# Altium footprint library Interface IC Pad Lib.PcbLib: 8 footprints
Each footprint in its own frame and in the unit in brackets; x right, y up, seen from the top. Pads: shape width x height; smd on the part's side, far side on the other; paste and mask are expansions set on the pad; w line width, h text height; cw(c..) or ccw(c..) is an arc to the next point about the centre after c.
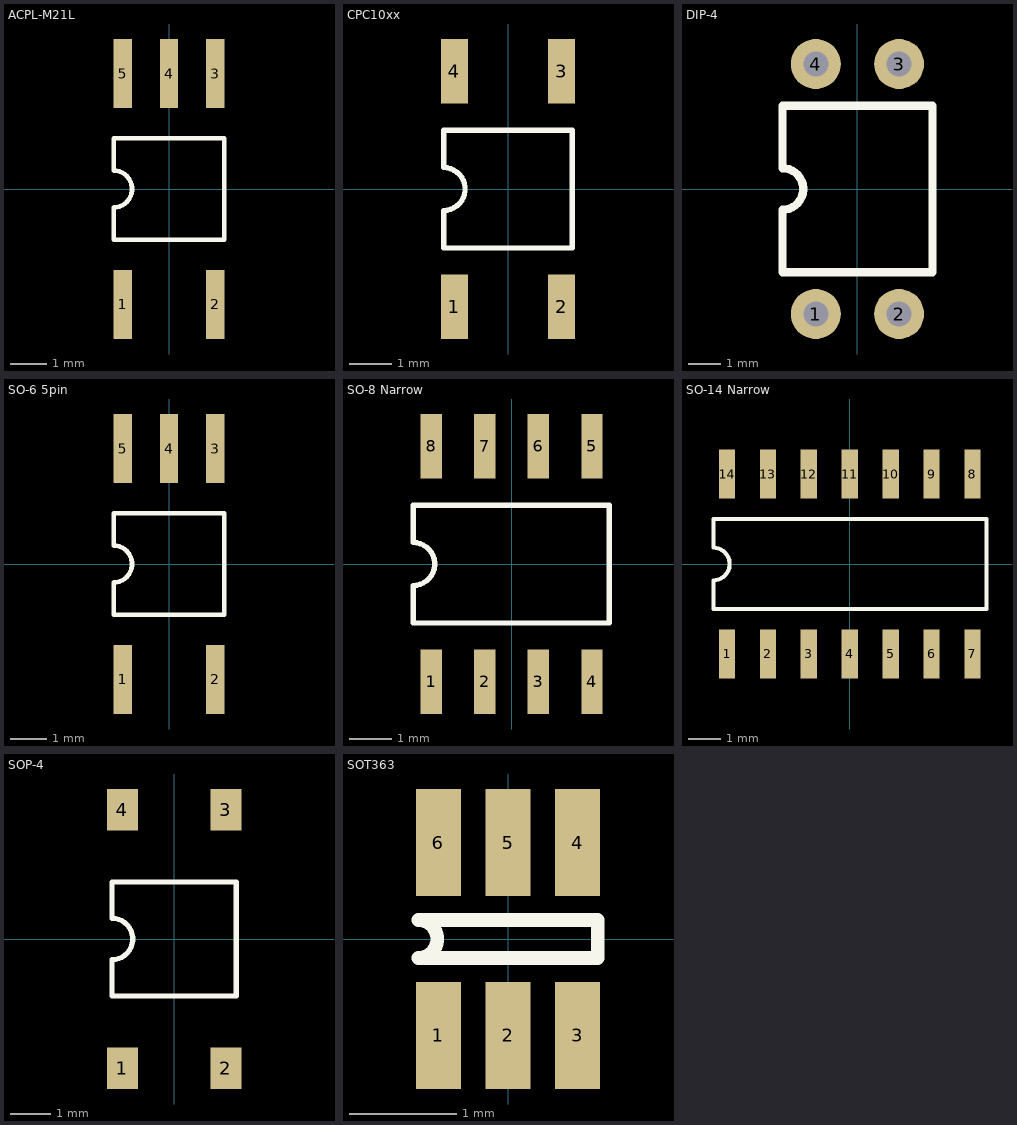
[diagram p0: the footprints below, top view; thin cyan lines are the x and y axes]

## ACPL-M21L [mil] "ACPL-M21L  (SMD SO-5 Case)"
pads (5):
  rect 20x75 smd: 1(-50,-125) 2(50,-125) 3(50,125) 4(0,125) 5(-50,125)
Top Overlay:
  lines w5: -60,-55 60,-55 60,55 -60,55 -60,20 cw(c-60,0) -60,-20 -60,-55
3D body "SO-5.STEP": height 105.18, standoff -1.12, extent -70.87,-137.8 70.87,137.8
3D body: height 171, standoff -22, extent 30,0 30,0
3D body: height 171, standoff -22, extent 30,0 30,0

## CPC10xx [mil] "Solid State Relay (SMD SO-4 Case, Ixys)"
pads (4):
  rect 25x60 smd: 1(-50,-110) 2(50,-110) 3(50,110) 4(-50,110)
Top Overlay:
  lines w5: -60,-55 60,-55 60,55 -60,55 -60,20 cw(c-60,0) -60,-20 -60,-55
3D body: height 171, standoff -22, extent 30,0 30,0
3D body: height 171, standoff -22, extent 30,0 30,0
3D body "CPC10xx.STEP": height 82.44, standoff 0, extent -80.49,-120 80.5,120

## DIP-4 [mil] "DIP-4"
pads (4):
  round 60 hole 30: 1(-50,-150) 2(50,-150) 3(50,150) 4(-50,150)
Top Overlay:
  lines w10: -90,-100 -90,-25 ccw(c-90,0) -90,25 -90,100 90,100 90,-100 -90,-100
3D body "DIP-4 WHT.STEP": height 208.66, standoff -78.74, extent -90.04,-155 90.27,154.84

## SO-6 5pin [mil] "SMD SO-6 5pin Case"
pads (5):
  rect 20x75 smd: 1(-50,-125) 2(50,-125) 3(50,125) 4(0,125) 5(-50,125)
Top Overlay:
  lines w5: -60,-55 60,-55 60,55 -60,55 -60,20 cw(c-60,0) -60,-20 -60,-55
3D body "SO-5.STEP": height 105.18, standoff -1.12, extent -70.87,-137.8 70.87,137.8
3D body: height 171, standoff -22, extent 30,0 30,0
3D body: height 171, standoff -22, extent 30,0 30,0

## SO-8 Narrow [mil] "SO-8 Narrow"
pads (8):
  rect 20x60 smd: 1(-75,-110) 2(-25,-110) 3(25,-110) 4(75,-110) 5(75,110) 6(25,110) 7(-25,110) 8(-75,110)
Top Overlay:
  lines w5: -91.75,-55 91,-55 91,55 -91.75,55 -91.75,20 cw(c-91.75,0) -91.75,-20 -91.75,-55
3D body: height 171, standoff -22, extent 0,0 0,0
3D body: height 171, standoff -22, extent 0,0 0,0
3D body "SO-8 Narrow.step": height 57, standoff 0, extent -96.75,-115 96.25,112.49

## SO-14 Narrow [mil] "SO-14 Narrow"
pads (14):
  rect 20x60 smd: 1(-150,-110) 2(-100,-110) 3(-50,-110) 4(0,-110) 5(50,-110) 6(100,-110) 7(150,-110) 8(150,110) 9(100,110) 10(50,110) 11(0,110) 12(-50,110) 13(-100,110) 14(-150,110)
Top Overlay:
  lines w5: -166.75,-55 -166.75,-20 ccw(c-166.75,0) -166.75,20 -166.75,55 167,55 167,-55 -166.75,-55
3D body: height 171, standoff -22, extent -70,0 -70,0
3D body: height 171, standoff -22, extent -70,0 -70,0
3D body "SOIC-14 Narrow.step": height 68.9, standoff 0, extent -172.24,-118.1 172.25,118.12

## SOP-4 [mil] "SMD SOP-4"
pads (4):
  rect 30x40 smd: 1(-50,-125) 2(50,-125) 3(50,125) 4(-50,125)
Top Overlay:
  lines w5: -60,-55 60,-55 60,55 -60,55 -60,20 cw(c-60,0) -60,-20 -60,-55
3D body: height 171, standoff -22, extent 30,0 30,0
3D body: height 171, standoff -22, extent 30,0 30,0
3D body "SOP-4.STEP": height 86.61, standoff 0.12, extent -74.8,-138.35 74.81,138.35

## SOT363 [mm] "SOT363"
pads (6):
  rect 0.42x1 smd: 1(-0.65,-0.9) 2(0,-0.9) 3(0.65,-0.9) 4(0.65,0.9) 5(0,0.9) 6(-0.65,0.9)
Top Overlay:
  lines w0.127: -0.838,-0.178 ccw(c-0.838,0) -0.838,0.178 0.838,0.178 0.838,-0.178 -0.838,-0.178
3D body "SOT363.STEP": height 1, standoff 0, extent -1.05,-1.15 1.05,1.15
3D body: height 4.34, standoff -0.56, extent 1.219,0 1.219,0
3D body: height 4.34, standoff -0.56, extent 1.219,0 1.219,0